# EAGLE library part MP26123DR-LF-Z (library U--MP26123DR-LF-Z--LiPo Charger)
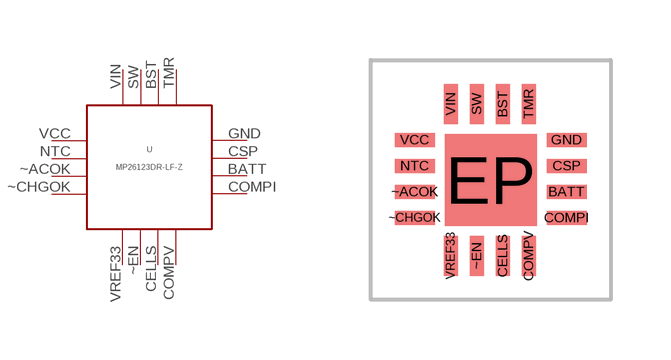
[diagram p0: symbol with the pads of MP26123DR-LF-Z; footprint MP26123DR-LF-Z]

Designator prefix -

## MP26123DR-LF-Z  [MP26123DR-LF-Z]
BATT  BATT
BST  BST
CELLS  CELLS
COMPI  COMPI
COMPV  COMPV
CSP  CSP
GND  GND
NTC  NTC
SW  SW
TMR  TMR
VCC  VCC
VIN  VIN
VREF33  VREF33
~ACOK  ~ACOK
~CHGOK  ~CHGOK
~EN  ~EN

## Footprint MP26123DR-LF-Z (pad centres in mm)
smd 1 x 0.35: BATT 1.9,-0.3; COMPI 1.9,-0.95; CSP 1.9,0.35; GND 1.9,1; NTC -1.9,0.35; VCC -1.9,1; ~ACOK -1.9,-0.3; ~CHGOK -1.9,-0.95
smd 0.35 x 1: BST 0.3,1.9; CELLS 0.3,-1.9; COMPV 0.95,-1.9; SW -0.35,1.9; TMR 0.95,1.9; VIN -1,1.9; VREF33 -1,-1.9; ~EN -0.35,-1.9
smd 2.3 x 2.3: EP 0,0